# Altium schematic symbol library Terminal Block 7.SchLib: 1 symbol
Pins are listed as number, name and electrical type; pins without a type are passive.

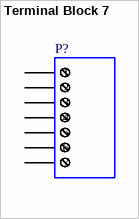
[diagram p0: symbol Terminal Block 7]

## Terminal Block 7
designator P?
Screw terminal block, 7-Way
pins: 1, 2, 3, 4, 5, 6, 7